# EAGLE library part OPA2344UA (library OPA2344)
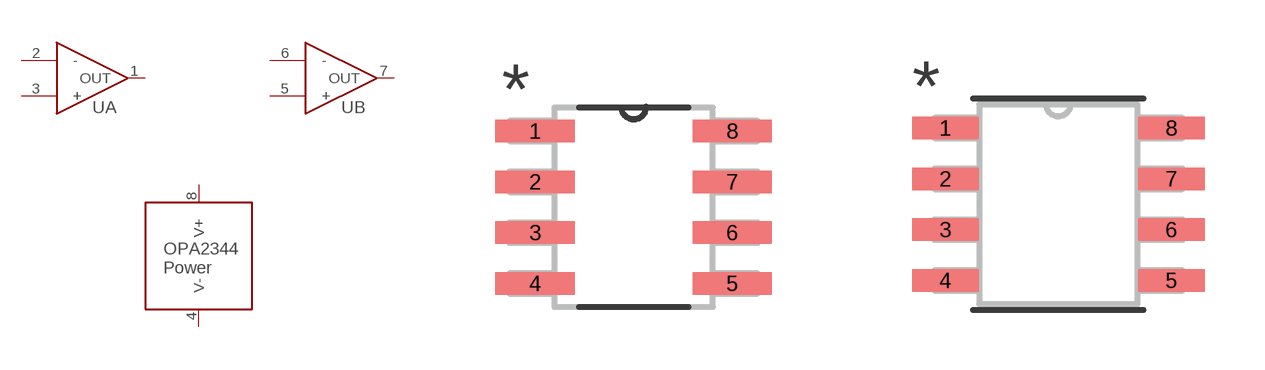
[diagram p0: symbol with the pads of D8; footprints D8, D8-M]

Designator prefix U; gates A=OPAMP B=OPAMP C=OPAMP_PWR

## OPA2344UA (COPYRIGHT: Copyright (C) 2022 Ultra Librarian. All rights reserved.; DIGI-KEY_PART_NUMBER_1: OPA2344UA-ND; DIGI-KEY_PART_NUMBER_2: 2156-OPA2344UA-ND; DIGI-KEY_PART_NUMBER_3: 2156-OPA2344UA-TI-ND; MANUFACTURER_PART_NUMBER: OPA2344UA; MFR_NAME: Texas Instruments)  [D8]
1  A:OUT
2  A:-
3  A:+
4  C:V-
5  B:+
6  B:-
7  B:OUT
8  C:V+

## OPA2344UAD8-M (COPYRIGHT: Copyright (C) 2022 Ultra Librarian. All rights reserved.; DIGI-KEY_PART_NUMBER_1: OPA2344UA-ND; DIGI-KEY_PART_NUMBER_2: 2156-OPA2344UA-ND; DIGI-KEY_PART_NUMBER_3: 2156-OPA2344UA-TI-ND; MANUFACTURER_PART_NUMBER: OPA2344UA; MFR_NAME: Texas Instruments)  [D8-M]

## OPA2344UAD8-L (COPYRIGHT: Copyright (C) 2022 Ultra Librarian. All rights reserved.; DIGI-KEY_PART_NUMBER_1: OPA2344UA-ND; DIGI-KEY_PART_NUMBER_2: 2156-OPA2344UA-ND; DIGI-KEY_PART_NUMBER_3: 2156-OPA2344UA-TI-ND; MANUFACTURER_PART_NUMBER: OPA2344UA; MFR_NAME: Texas Instruments)  [D8-L]

## Footprint D8 (pad centres in mm)
smd 1.981 x 0.559: 1 -2.464,1.905; 2 -2.464,0.635; 3 -2.464,-0.635; 4 -2.464,-1.905; 5 2.464,-1.905; 6 2.464,-0.635; 7 2.464,0.635; 8 2.464,1.905

## Footprint D8-M (pad centres in mm)
smd 1.664 x 0.559: 1 -2.826,1.905; 2 -2.826,0.635; 3 -2.826,-0.635; 4 -2.826,-1.905; 5 2.826,-1.905; 6 2.826,-0.635; 7 2.826,0.635; 8 2.826,1.905

## Footprint D8-L (pad centres in mm)
smd 1.257 x 0.508: 1 -2.623,1.905; 2 -2.623,0.635; 3 -2.623,-0.635; 4 -2.623,-1.905; 5 2.623,-1.905; 6 2.623,-0.635; 7 2.623,0.635; 8 2.623,1.905